# EAGLE library part KNITTER-SWITCH-MFP220 (library AIC_Custom)
KNITTER-SWITCH MFP220 Slide Switch, DPDT, Vertical, Through Hole, 350mA, 30V DC Manufacturer: KNITTER-SWITCH RS Order Code: 702-3612 Manufacturer Part No MFP220
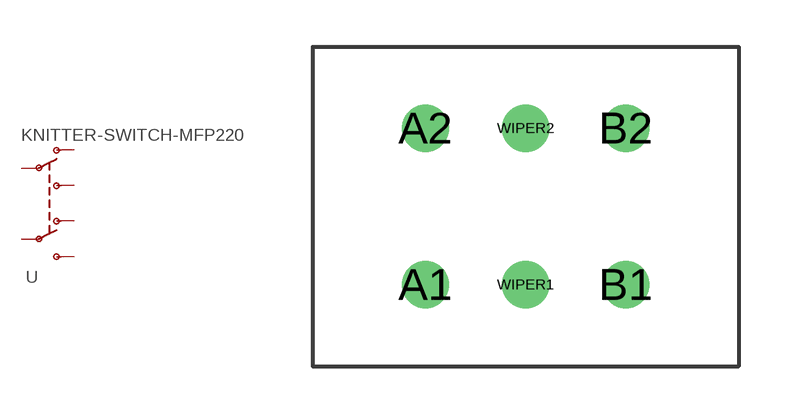
[diagram p4: symbol with the pads of KNITTER-SWITCH-MFP220; footprint KNITTER-SWITCH-MFP220]

Designator prefix -

## KNITTER-SWITCH-MFP220  [KNITTER-SWITCH-MFP220]
A1  A1  pas
A2  A2  pas
B1  B1  pas
B2  B2  pas
WIPER1  COMMON1  pas
WIPER2  COMMON2  pas

## Footprint KNITTER-SWITCH-MFP220 (pad centres in mm)
drill 1: A1 0,0; A2 0,5; B1 6.4,0; B2 6.4,5; WIPER1 3.2,0; WIPER2 3.2,5